# Altium footprint library PTS645SH50SMTR92LFS.PcbLib: 1 footprints
Each footprint in its own frame and in the unit in brackets; x right, y up, seen from the top. Pads: shape width x height; smd on the part's side, far side on the other; paste and mask are expansions set on the pad; w line width, h text height; cw(c..) or ccw(c..) is an arc to the next point about the centre after c.
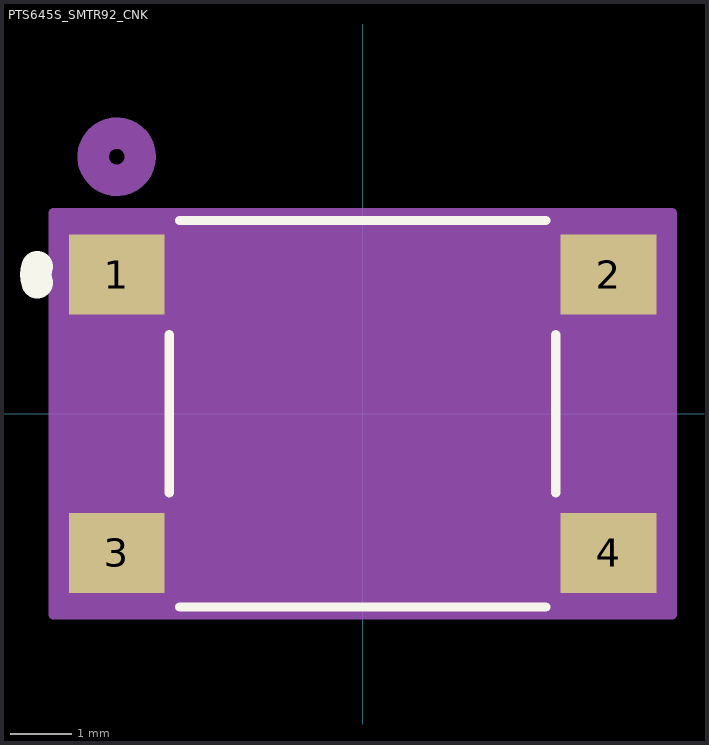
[diagram p0: the footprint, top view; thin cyan lines are the x and y axes]

## PTS645S_SMTR92_CNK [mm]
pads (4):
  rect 1.549x1.295 smd paste+0 mask+0: 1(-3.975,2.25) 2(3.975,2.25) 3(-3.975,-2.25) 4(3.975,-2.25)
Top Overlay:
  lines w0.152: -3.124,-1.278 -3.124,1.278 ; -2.957,-3.124 2.957,-3.124 ; -2.957,3.124 2.957,3.124 ; 3.124,-1.278 3.124,1.278
  lines w0.508: -5.26,2.12 cw(c-4.902,2.25) -5.26,2.38
Bottom Overlay:
  circle w0.508: c-4.902,2.25 r0.381
Mechanical 13:
  circle w0.508: c-3.975,4.155 r0.381
  lines w0.025: -2.997,-2.997 2.997,-2.997 2.997,2.997 -2.997,2.997 -2.997,-2.997
Mechanical 15:
  region: 5.004,3.251 -5.004,3.251 -5.004,-3.251 5.004,-3.251
  lines w0.152: -5.004,-3.251 -5.004,3.251 5.004,3.251 5.004,-3.251 -5.004,-3.251
3D body "PTS645SH50SMTR92 LFS.STEP": height 3, standoff -3, extent -5.008,-9.191 3.992,-4.191